# Altium footprint library DRP_Basic_2014.PcbLib: 82 footprints (part 3 of 6)
Each footprint in its own frame and in the unit in brackets; x right, y up, seen from the top. Pads: shape width x height; smd on the part's side, far side on the other; paste and mask are expansions set on the pad; w line width, h text height; cw(c..) or ccw(c..) is an arc to the next point about the centre after c.
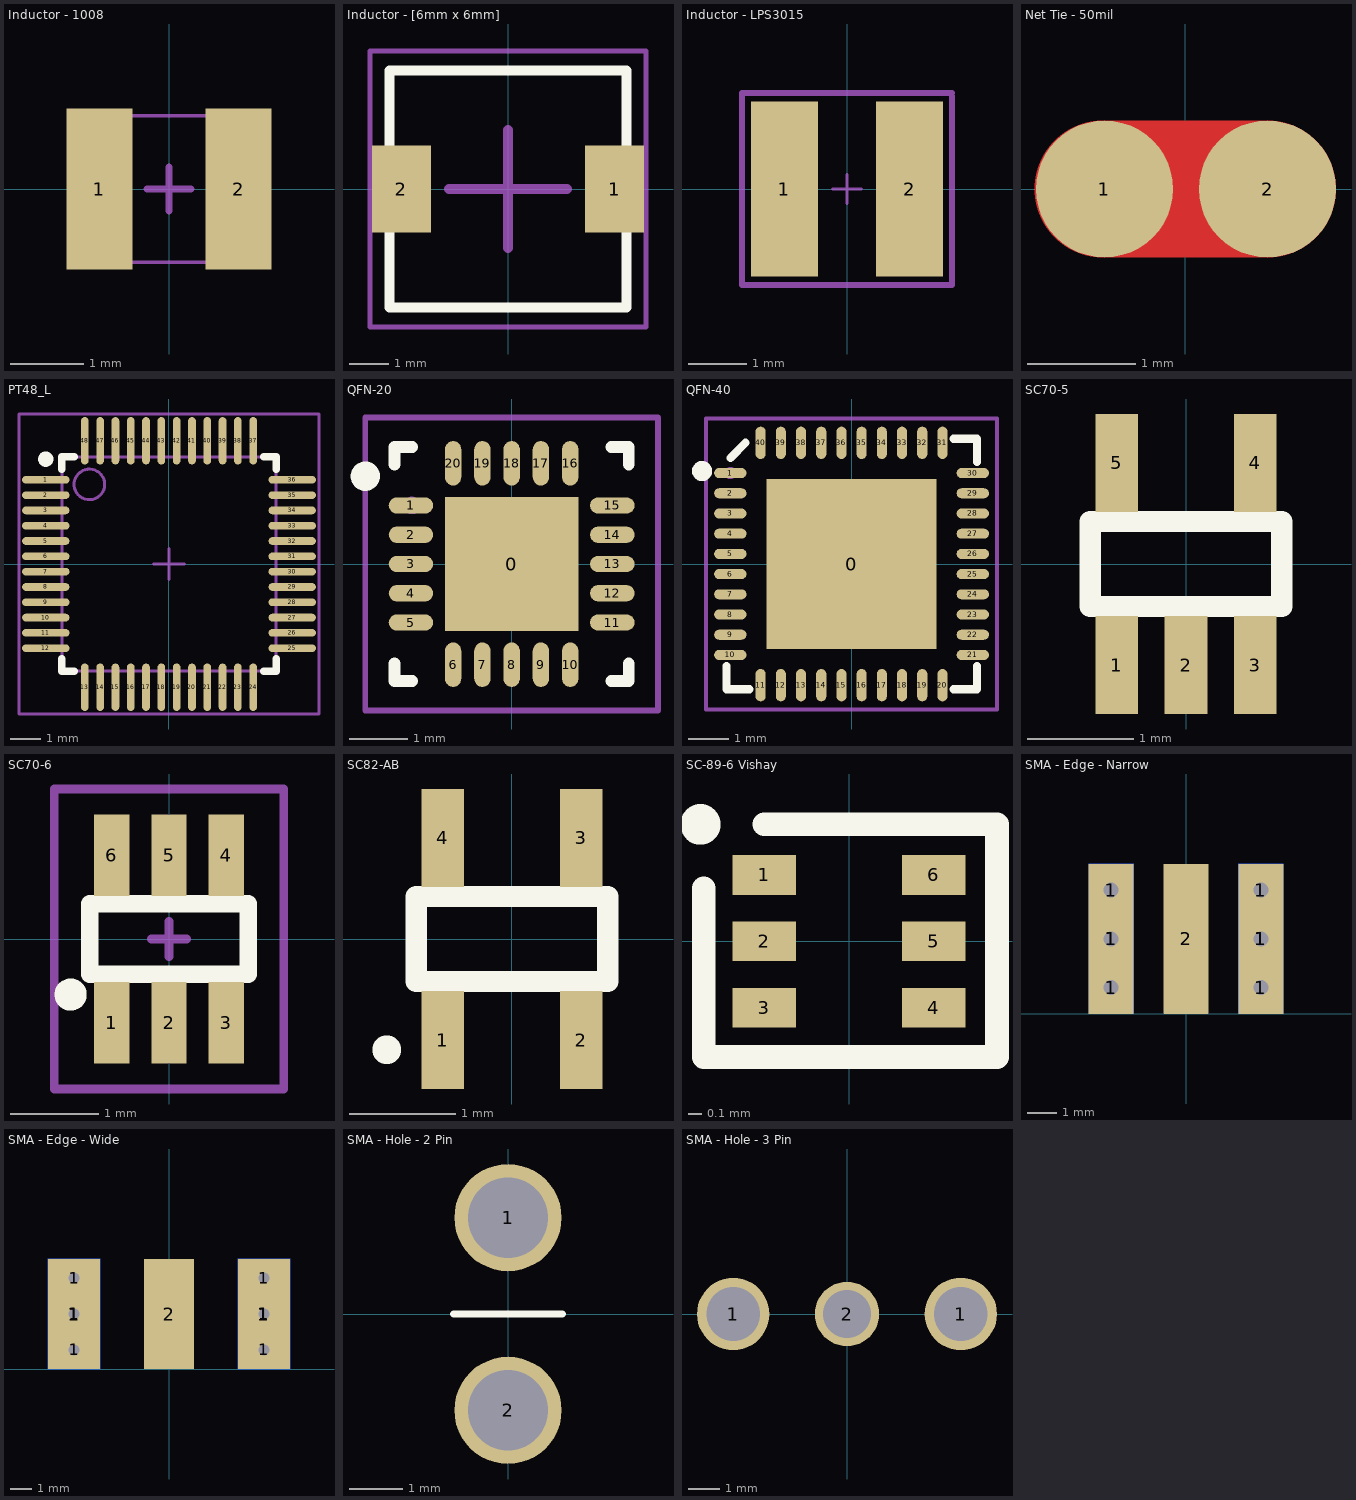
[diagram p2: the footprints below, top view; thin cyan lines are the x and y axes]

## Inductor - 1008 [mm] "Murata - LQM2HPN1R5MG0L"
height 0.9
pads (2):
  rect 0.9x2.2 smd: 1(-0.95,0) 2(0.95,0)
Mechanical 13:
  lines w0.051: -1.25,-1 1.25,-1 1.25,1 -1.25,1 -1.25,-1
  text ".Designator" at -1.016,-0.381 h0.76
Mechanical 15:
  lines w0.1: -0.3,0 0.3,0 ; 0,-0.3 0,0.3
3D body: height 1.1, standoff 0, extent -1.25,-1 1.25,1

## Inductor - [6mm x 6mm] [mm] "Power Inductor (6mm x 6mm) - SLF6028 Series"
height 2.5
pads (2):
  rect 1.5x2.2 smd: 1(2.7,0) 2(-2.7,0)
Top Overlay:
  lines w0.254: -3,-3 3,-3 3,3 -3,3 -3,-3
Mechanical 13:
  text ".Designator" at -1.5,-0.5 h1.52
Mechanical 15:
  lines w0.127: -3.5,-3.5 -3.5,3.5 3.5,3.5 3.5,-3.5 -3.5,-3.5
  lines w0.254: -1.5,0 1.5,0 ; 0,-1.5 0,1.5
3D body: height 2.5, standoff 0, extent -3,-3 3,3

## Inductor - LPS3015 [mm] "Coil Craft - LPS3015 (3 x 3 x 1.4mm)"
height 1.4
pads (2):
  rect 1.15x3 smd: 1(-1.075,0) 2(1.075,0)
Mechanical 13:
  text ".Designator" at -0.95,-0.3 h0.76
Mechanical 15:
  lines w0.051: -0.25,0 0,0 ; 0,-0.25 0,0 ; 0,0.25 0,0 ; 0.25,0 0,0
  lines w0.102: 1.8,1.6 1.8,-1.65 -1.8,-1.65 -1.8,1.65 1.8,1.65
3D body: height 1.4, standoff 0, extent -1.5,-1.5 1.5,1.5

## Net Tie - 50mil [mm] "Net Tie is used to connect two differnt nets together"
pads (2):
  round 1.27 smd: 1(-0.75,0) 2(0.762,0)
Top Layer:
  lines w1.27: -0.762,0 0.762,0

## PCBComponent_1 [mm]

## PT48_L [mm] "Thin QFP, 48-Leads, Body 7x7mm, Pitch 0.5mm, IPC High Density"
height 1.6
pads (48):
  oval 1.55x0.25 smd: 1(-4.025,2.75) 2(-4.025,2.25) 3(-4.025,1.75) 4(-4.025,1.25) 5(-4.025,0.75) 6(-4.025,0.25) 7(-4.025,-0.25) 8(-4.025,-0.75) 9(-4.025,-1.25) 10(-4.025,-1.75) 11(-4.025,-2.25) 12(-4.025,-2.75) 25(4.025,-2.75) 26(4.025,-2.25) 27(4.025,-1.75) 28(4.025,-1.25) 29(4.025,-0.75) 30(4.025,-0.25) 31(4.025,0.25) 32(4.025,0.75) 33(4.025,1.25) 34(4.025,1.75) 35(4.025,2.25) 36(4.025,2.75)
  oval 0.25x1.55 smd: 13(-2.75,-4.025) 14(-2.25,-4.025) 15(-1.75,-4.025) 16(-1.25,-4.025) 17(-0.75,-4.025) 18(-0.25,-4.025) 19(0.25,-4.025) 20(0.75,-4.025) 21(1.25,-4.025) 22(1.75,-4.025) 23(2.25,-4.025) 24(2.75,-4.025) 37(2.75,4.025) 38(2.25,4.025) 39(1.75,4.025) 40(1.25,4.025) 41(0.75,4.025) 42(0.25,4.025) 43(-0.25,4.025) 44(-0.75,4.025) 45(-1.25,4.025) 46(-1.75,4.025) 47(-2.25,4.025) 48(-2.75,4.025)
Top Overlay:
  circle w0.25: c-4.025,3.425 r0.125
  lines w0.254: -3.5,-3.1 -3.5,-3.5 -3.1,-3.5 ; -3.5,3.1 -3.5,3.5 -3.1,3.5 ; 3.1,-3.5 3.5,-3.5 3.5,-3.1 ; 3.1,3.5 3.5,3.5 3.5,3.1
Mechanical 13:
  circle w0.1: c-2.6,2.6 r0.5
  lines w0.1: -3.5,-3.5 -3.5,3.5 3.5,3.5 3.5,-3.5 -3.5,-3.5
Mechanical 15:
  lines w0.1: -0.5,0 0.5,0 ; 0,-0.5 0,0.5 ; -4.9,-4.9 -4.9,4.9 4.9,4.9 4.9,-4.9 -4.9,-4.9
3D body: height 1.6, standoff 0, extent -3.5,-3.5 3.5,3.5

## QFN-20 [mm] "20 pin QFN as per CC2500 datasheet"
height 1
pads (21):
  rect 2.286x2.286 smd: 0(0,0)
  oval 0.76x0.28 smd: 1(-1.72,1) 2(-1.72,0.5) 3(-1.72,0) 4(-1.72,-0.5) 5(-1.72,-1) 11(1.72,-1) 12(1.72,-0.5) 13(1.72,0) 14(1.72,0.5) 15(1.72,1)
  oval 0.28x0.76 smd: 6(-1,-1.72) 7(-0.5,-1.72) 8(0,-1.72) 9(0.5,-1.72) 10(1,-1.72) 16(1,1.72) 17(0.5,1.72) 18(0,1.72) 19(-0.5,1.72) 20(-1,1.72)
Top Overlay:
  circle w0.25: c-2.5,1.5 r0.125
  lines w0.2: -2,-1.7 -2,-2 -1.7,-2 ; -2,1.7 -2,2 -1.7,2 ; 1.7,-2 2,-2 2,-1.7 ; 1.7,2 2,2 2,1.7
Mechanical 13:
  circle w0.15: c-1.7,1 r0.075
  text ".Designator" at -1,-0.25 h0.76
Mechanical 15:
  lines w0.1: -0.25,0 0,0 ; 0,-0.25 0,0 ; 0,0.25 0,0 ; 0.25,0 0,0 ; -2.5,-2.5 -2.5,2.5 2.5,2.5 2.5,-2.5 -2.5,-2.5
3D body: height 1, standoff 0, extent -2,-2 2,2

## QFN-40 [mm] "QFN-40, for MSP430x22x2, x4"
height 1
pads (41):
  rect 4.2x4.2 smd paste-4.318: 0(0,0)
  oval 0.8x0.25 smd: 1(-3,2.25) 2(-3,1.75) 3(-3,1.25) 4(-3,0.75) 5(-3,0.25) 6(-3,-0.25) 7(-3,-0.75) 8(-3,-1.25) 9(-3,-1.75) 10(-3,-2.25) 21(3,-2.25) 22(3,-1.75) 23(3,-1.25) 24(3,-0.75) 25(3,-0.25) 26(3,0.25) 27(3,0.75) 28(3,1.25) 29(3,1.75) 30(3,2.25)
  oval 0.25x0.8 smd: 11(-2.25,-3) 12(-1.75,-3) 13(-1.25,-3) 14(-0.75,-3) 15(-0.25,-3) 16(0.25,-3) 17(0.75,-3) 18(1.25,-3) 19(1.75,-3) 20(2.25,-3) 31(2.25,3) 32(1.75,3) 33(1.25,3) 34(0.75,3) 35(0.25,3) 36(-0.25,3) 37(-0.75,3) 38(-1.25,3) 39(-1.75,3) 40(-2.25,3)
Top Overlay:
  circle w0.25: c-3.7,2.3 r0.125
  lines w0.2: -3.1,-2.525 -3.1,-3.1 -2.525,-3.1 ; -3,2.625 -2.625,3 ; 2.525,-3.1 3.1,-3.1 3.1,-2.525 ; 2.525,3.1 3.1,3.1 3.1,2.525
Top Paste:
  rectangle: -2.1,-0.6 -0.9,0.6
  rectangle: -0.6,-0.6 0.6,0.6
  rectangle: 0.9,-0.6 2.1,0.6
  rectangle: 0.9,0.9 2.1,2.1
  rectangle: -0.6,0.9 0.6,2.1
  rectangle: -2.1,0.9 -0.9,2.1
  rectangle: 0.9,-2.1 2.1,-0.9
  rectangle: -0.6,-2.1 0.6,-0.9
  rectangle: -2.1,-2.1 -0.9,-0.9
Mechanical 13:
  circle w0.15: c-3,2.25 r0.075
  text ".Designator" at -1.5,-0.3 h0.76
Mechanical 15:
  lines w0.1: -0.3,0 0.3,0 ; 0,-0.3 0,0.3 ; -3.6,-3.6 -3.6,3.6 3.6,3.6 3.6,-3.6 -3.6,-3.6
3D body: height 1, standoff 0, extent -3,-3 3,3

## SC70-5 [mm] "SC70-5"
height 1.1
pads (5):
  rect 0.4x0.92 smd: 1(-0.65,-0.95) 2(0,-0.95) 3(0.65,-0.95) 4(0.65,0.95) 5(-0.65,0.95)
Top Overlay:
  lines w0.2: -0.9,-0.4 -0.9,0.4 0.9,0.4 0.9,-0.4 -0.9,-0.4
Mechanical 13:
  circle w0.1: c-0.65,-0.95 r0.036
  lines w0.1: -0.9,-0.4 0.9,-0.4 0.9,0.4 -0.9,0.4 -0.9,-0.4
  text ".Designator" at -0.686,-0.152 h0.38
3D body: height 1.1, standoff 0, extent -0.9,-0.4 0.9,0.4

## SC70-6 [mm] "SC70-6"
height 1.1
pads (6):
  rect 0.4x0.92 smd: 1(-0.65,-0.95) 2(0,-0.95) 3(0.65,-0.95) 4(0.65,0.95) 5(0,0.95) 6(-0.65,0.95)
Top Overlay:
  circle w0.203: c-1.115,-0.63 r0.081
  lines w0.2: -0.9,-0.4 -0.9,0.4 0.9,0.4 0.9,-0.4 -0.9,-0.4
Mechanical 13:
  circle w0.1: c-0.65,-0.95 r0.036
  lines w0.1: -0.9,-0.4 0.9,-0.4 0.9,0.4 -0.9,0.4 -0.9,-0.4
  text ".Designator" at -0.686,-0.152 h0.38
Mechanical 15:
  lines w0.1: -0.2,0 0,0 ; 0,-0.2 0,0 ; 0,0.2 0,0 ; 0.2,0 0,0 ; -1.3,-1.7 1.3,-1.7 1.3,1.7 -1.3,1.7 -1.3,-1.7
3D body: height 1.1, standoff 0, extent -0.9,-0.4 0.9,0.4

## SC82-AB [mm]
pads (4):
  rect 0.4x0.92 smd: 1(-0.65,-0.95) 2(0.65,-0.95) 3(0.65,0.95) 4(-0.65,0.95)
Top Overlay:
  circle w0.254: c-1.176,-1.041 r0.008
  lines w0.2: -0.9,-0.4 0.9,-0.4 0.9,0.4 -0.9,0.4 -0.9,-0.4

## SC-89-6 Vishay [mm]
pads (6):
  rect 0.478x0.3 smd: 1(-0.638,0.5) 2(-0.638,0) 3(-0.638,-0.5) 4(0.638,-0.5) 5(0.638,0) 6(0.638,0.5)
Top Overlay:
  circle w0.254: c-1.121,0.881 r0.025
  lines w0.178: -1.095,0.398 -1.095,-0.872 1.115,-0.872 1.115,0.881 -0.638,0.881

## SMA - Edge - Narrow [mil] "SMA - Board Edge Connector, Narrow body = 0.25in"
height 5
pads (11):
  round 38 hole 20: 1(-100,35) 1(-100,100) 1(-100,165) 1(100,35) 1(100,100) 1(100,165)
  rect 60x200 smd: 1(-100,100) 1(100,100) 2(0,100)
  rect 60x200 smd far side: 1(-100,100) 1(100,100)
3D body "Samtec-SMA-J-P-H-ST-EM1.step": height 150.2, standoff -99.8, extent -125,-377.95 125,146.85

## SMA - Edge - Wide [mil] "SMA - Board Edge Connector, Wide Body = .375in, no gnd pad"
height 5
pads (11):
  round 38 hole 20: 1(-172.5,35) 1(-172.5,100) 1(-172.5,165) 1(172.5,35) 1(172.5,100) 1(172.5,165)
  rect 95x200 smd: 1(-172.5,100) 1(172.5,100)
  rect 95x200 smd far side: 1(-172.5,100) 1(172.5,100)
  rect 90x200 smd: 2(0,100)

## SMA - Hole - 2 Pin [mm] "SMA port for wisp"
pads (2):
  round 2 hole 1.5: 1(0,1.796) 2(0,-1.796)
Top Overlay:
  lines w0.127: -1.016,0 1.016,0

## SMA - Hole - 3 Pin [mil] "SMA Through Hole Connector 3 pins"
pads (3):
  round 90 hole 67: 1(-141.42,0) 1(141.42,0)
  round 80 hole 59.06: 2(0,0)